# Altium schematic symbol library IS-uINS-3.2.SchLib: 1 symbol
Pins are listed as number, name and electrical type; pins without a type are passive.

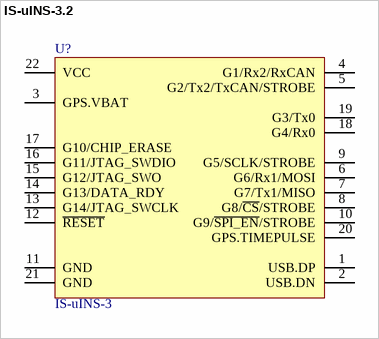
[diagram p0: symbol IS-uINS-3.2]

## IS-uINS-3.2
designator U?, comment Manufacturer Part Number: IS-uINS-3  (hidden comment: uINS)
Inertial Sense uINS; Manufacturer: Inertial Sense; Supplier 1: Inertial Sense; Supplier Part Number 1: IS-uINS-3
footprint IS-uINS-3.2_no_paste (Inerial Sense uINS r3.2, 22pins 1.27mm pitch)
pins: 1 USB.DP, 2 USB.DN, 3 GPS.VBAT, 4 G1/Rx2/RxCAN, 5 G2/Tx2/TxCAN/STROBE, 6 G6/Rx1/MOSI, 7 G7/Tx1/MISO, 8 G8/~{CS}/STROBE, 9 G5/SCLK/STROBE, 10 G9/~{SPI_EN}/STROBE, 11 GND (power), 12 ~{RESET}, 13 G14/JTAG_SWCLK, 14 G13/DATA_RDY, 15 G12/JTAG_SWO, 16 G11/JTAG_SWDIO, 17 G10/CHIP_ERASE, 18 G4/Rx0, 19 G3/Tx0, 20 GPS.TIMEPULSE, 21 GND (power), 22 VCC (power)